# EAGLE library part 74HC595 (library Clock components)
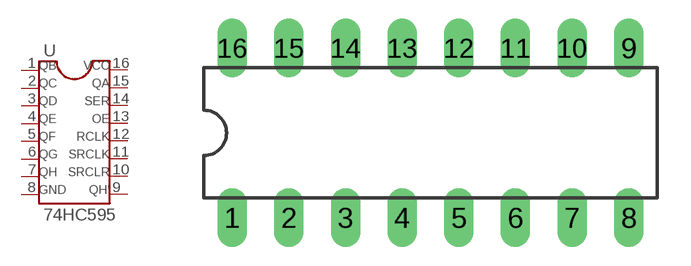
[diagram p3: symbol with the pads of DIL16; footprint DIL16]

Designator prefix -

## 74HC595  [DIL16]
1  QB  pas
2  QC  pas
3  QD  pas
4  QE  pas
5  QF  pas
6  QG  pas
7  QH  pas
8  GND  pas
9  QH'  pas
10  SRCLR  pas
11  SRCLK  pas
12  RCLK  pas
13  OE  pas
14  SER  pas
15  QA  pas
16  VCC  pas

## Footprint DIL16 (pad centres in mm)
Dual In Line Package
drill 0.813 long: 1 -8.89,-3.81; 2 -6.35,-3.81; 3 -3.81,-3.81; 4 -1.27,-3.81; 5 1.27,-3.81; 6 3.81,-3.81; 7 6.35,-3.81; 8 8.89,-3.81; 9 8.89,3.81; 10 6.35,3.81; 11 3.81,3.81; 12 1.27,3.81; 13 -1.27,3.81; 14 -3.81,3.81; 15 -6.35,3.81; 16 -8.89,3.81